# EAGLE library part TPS2379DDA (library TPS2379)
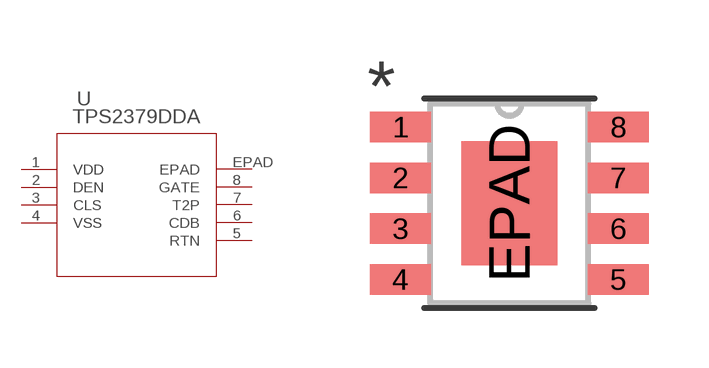
[diagram p0: symbol with the pads of DDA8_3P1X2P4_TEX; footprint DDA8_3P1X2P4_TEX]

Designator prefix U

## TPS2379DDA (COPYRIGHT: Copyright (C) 2021 Ultra Librarian. All rights reserved.; MANUFACTURER_PART_NUMBER: TPS2379DDA; MFR_NAME: Texas Instruments)  [DDA8_3P1X2P4_TEX]
1  VDD  pwr
2  DEN
3  CLS  out
4  VSS  pwr
5  RTN  pas
6  CDB  out
7  T2P  out
8  GATE  out
EPAD  EPAD  pas

## Footprint DDA8_3P1X2P4_TEX (pad centres in mm)
smd 1.524 x 0.762: 1 -2.724,1.905; 2 -2.724,0.635; 3 -2.724,-0.635; 4 -2.724,-1.905; 5 2.724,-1.905; 6 2.724,-0.635; 7 2.724,0.635; 8 2.724,1.905
smd 2.4 x 3.1: EPAD 0,0